# EAGLE library part BTN8982TA (library detcord-elec)
Half Bridge Driver DC Motors, General Purpose DMOS PG-TO263-7 Check availability <https://pricing.snapeda.com/parts/BTN8982TA/Infineon%20Technologies/view-part?ref=eda>
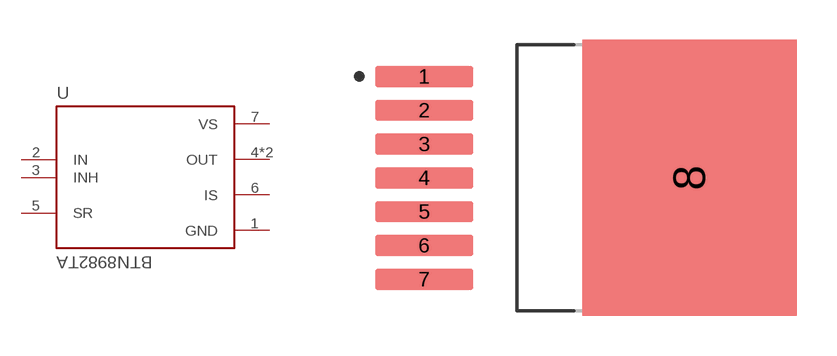
[diagram p4: symbol with the pads of DPAK127P1500X440-8N; footprint DPAK127P1500X440-8N]

Designator prefix U

## BTN8982TA (AVAILABILITY: In Stock; DESCRIPTION: Motor / Motion / Ignition Controllers & Drivers TRILITH IC / NOVALITH IC; MF: Infineon Technologies; MP: BTN8982TA; PACKAGE: TO-263-8 Infineon Technologies; PRICE: None)  [DPAK127P1500X440-8N]
1  GND  pwr
2  IN  in
3  INH  in
4  OUT  out
5  SR  in
6  IS  out
7  VS  pwr
8  OUT  out

## Footprint DPAK127P1500X440-8N (pad centres in mm)
smd 3.67 x 0.79: 1 -6.07,3.81; 2 -6.07,2.54; 3 -6.07,1.27; 4 -6.07,0; 5 -6.07,-1.27; 6 -6.07,-2.54; 7 -6.07,-3.81
smd 8.04 x 10.37: 8 3.89,0